# Altium footprint library Connectors.PcbLib: 73 footprints (part 2 of 5)
Each footprint in its own frame and in the unit in brackets; x right, y up, seen from the top. Pads: shape width x height; smd on the part's side, far side on the other; paste and mask are expansions set on the pad; w line width, h text height; cw(c..) or ccw(c..) is an arc to the next point about the centre after c.
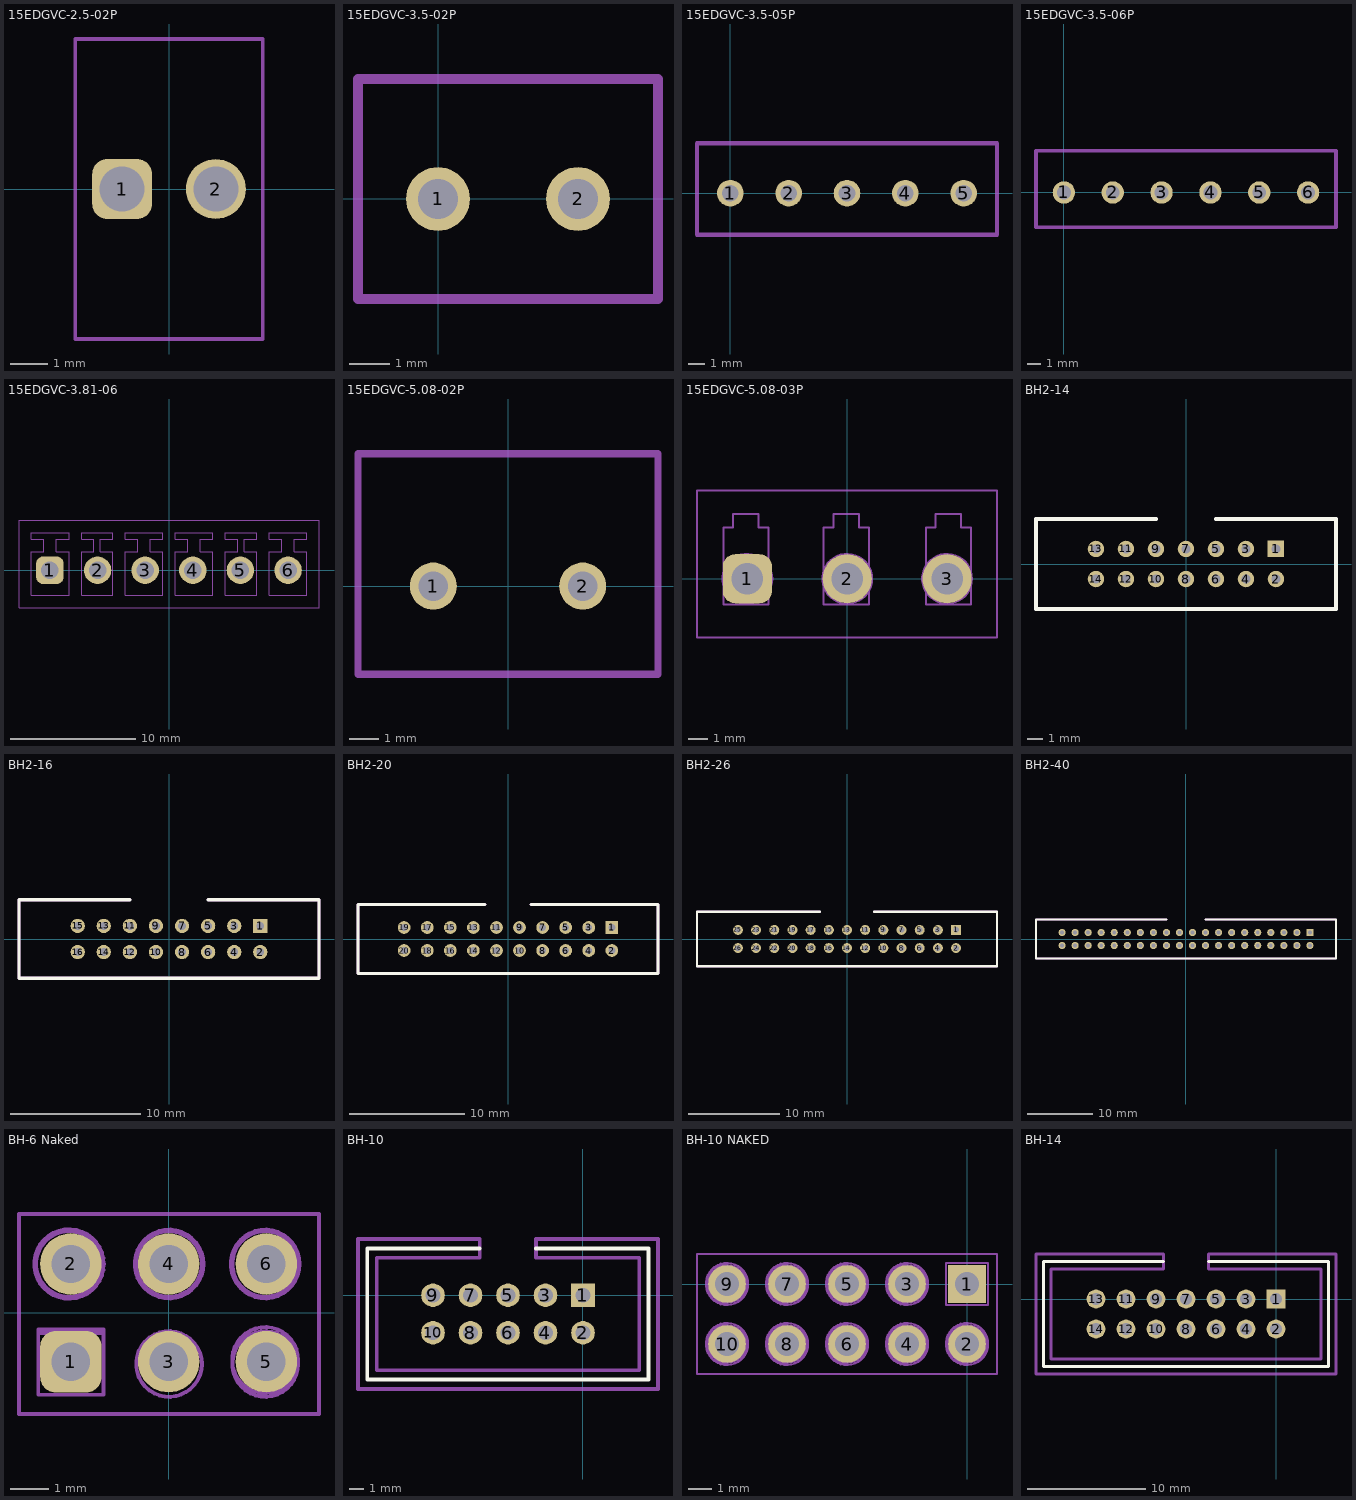
[diagram p1: the footprints below, top view; thin cyan lines are the x and y axes]

## 15EDGVC-2.5-02P [mm]
pads (2):
  rrect50% 1.6x1.6 hole 1.2: 1(-1.25,0)
  round 1.6 hole 1.2: 2(1.25,0)
Mechanical 1:
  lines w0.1: -2.5,-4 2.5,-4 2.5,4 -2.5,4 -2.5,-4
3D body: height 9, standoff 0, extent -2.5,2.5 2.5,4
3D body: height 9, standoff 0, extent -2.5,-4 2.5,2.5
3D body: height 7, standoff 0, extent -2.05,-0.8 -0.456,0.797
3D body: height 7, standoff 0, extent 0.45,-0.8 2.044,0.797

## 15EDGVC-3.5-02P [mm]
pads (2):
  round 1.6 hole 1: 1(0,0) 2(3.5,0)
Mechanical 1:
  lines w0.254: -2,-2.5 -2,3 5.5,3 5.5,-2.5 -2,-2.5
3D body: height 7, standoff 0, extent 2.5,-1 4.492,0.996
3D body: height 7, standoff 0, extent -1,-1 0.992,0.996
3D body: height 9, standoff 0, extent -2,-2.5 5.5,1.5
3D body: height 9, standoff 0, extent -2,1.5 5.5,3

## 15EDGVC-3.5-05P [mm]
pads (5):
  round 1.6 hole 1: 1(0,0) 2(3.5,0) 3(7,0) 4(10.5,0) 5(14,0)
Mechanical 1:
  lines w0.254: -2,-2.5 16,-2.5 16,3 -2,3 -2,-2.5
3D body: height 9, standoff 0, extent -2,1.5 5.5,3
3D body: height 9, standoff 0, extent -2,-2.5 5.5,1.5
3D body: height 7, standoff 0, extent -1,-1 0.992,0.996
3D body: height 7, standoff 0, extent 2.5,-1 4.492,0.996
3D body: height 7, standoff 0, extent 6,-1 7.992,0.996
3D body: height 7, standoff 0, extent 9.5,-1 11.492,0.996
3D body: height 7, standoff 0, extent 13,-1 14.992,0.996
3D body: height 9, standoff 0, extent 5.5,-2.5 16,1.5
3D body: height 9, standoff 0, extent 5.5,1.5 16,3

## 15EDGVC-3.5-06P [mm]
pads (6):
  round 1.6 hole 1: 1(0,0) 2(3.5,0) 3(7,0) 4(10.5,0) 5(14,0) 6(17.5,0)
Mechanical 1:
  lines w0.254: -2,-2.5 -2,3 19.5,3 19.5,-2.5 -2,-2.5
3D body: height 9, standoff 0, extent 16,-2.5 19.5,3
3D body: height 7, standoff 0, extent 16.5,-1 18.492,0.996
3D body: height 9, standoff 0, extent 5.5,1.5 16,3
3D body: height 9, standoff 0, extent 5.5,-2.5 16,1.5
3D body: height 7, standoff 0, extent 13,-1 14.992,0.996
3D body: height 7, standoff 0, extent 9.5,-1 11.492,0.996
3D body: height 7, standoff 0, extent 6,-1 7.992,0.996
3D body: height 7, standoff 0, extent 2.5,-1 4.492,0.996
3D body: height 7, standoff 0, extent -1,-1 0.992,0.996
3D body: height 9, standoff 0, extent -2,-2.5 5.5,1.5
3D body: height 9, standoff 0, extent -2,1.5 5.5,3

## 15EDGVC-3.81-06 [mm]
pads (6):
  rrect50% 2.2x2.2 hole 1.4: 1(-9.525,0)
  round 2.2 hole 1.4: 2(-5.715,0) 3(-1.905,0) 4(1.905,0) 5(5.715,0) 6(9.525,0)
Mechanical 1:
  lines w0.1: -7,3 -7,2.5 -6,2.5 -6,1.5 -7,1.5 -7,-2 -4.5,-2 -4.5,1.5 -5.5,1.5 -5.5,2.5 -4.5,2.5 -4.5,3 -7,3 ; -7,3 -7,3 ; 4.5,3 4.5,2.5 5.5,2.5 5.5,1.5 4.5,1.5 4.5,-2 7,-2 7,1.5 6,1.5 6,2.5 7,2.5 7,3 4.5,3 ; 4.5,3 4.5,3 ; -12,-3 12,-3 12,4 -12,4 -12,-3 ; -11,-2 -8,-2 -8,1.5 -9,1.5 -9,2.5 -8,2.5 -8,3 -11,3 -11,2.5 -10,2.5 -10,1.5 -11,1.5 -11,-2 ; -3.5,-2 -3.5,1.5 -2.5,1.5 -2.5,2.5 -3.5,2.5 -3.5,3 -0.5,3 -0.5,2.5 -1.5,2.5 -1.5,1.5 -0.5,1.5 -0.5,-2 -3.5,-2 ; 0.5,-2 0.5,1.5 1.5,1.5 1.5,2.5 0.5,2.5 0.5,3 3.5,3 3.5,2.5 2.5,2.5 2.5,1.5 3.5,1.5 3.5,-2 0.5,-2 ; 8,-2 8,1.5 9,1.5 9,2.5 8,2.5 8,3 11,3 11,2.5 10,2.5 10,1.5 11,1.5 11,-2 8,-2
Mechanical 13:
  text ".Designator" at -3.5,-4 h1
3D body: height 9.1, standoff 0, extent -7,1.5 -6,2.5
3D body: height 9.1, standoff 0, extent -5.5,1.5 -4.5,2.5
3D body: height 9.1, standoff 0, extent 4.5,1.5 5.5,2.5
3D body: height 9.1, standoff 0, extent 6,1.5 7,2.5
3D body: height 9.1, standoff 0, extent 0.5,1.5 1.5,2.5
3D body: height 9.1, standoff 0, extent 2.5,1.5 3.5,2.5
3D body: height 9.1, standoff 0, extent 8,1.5 9,2.5
3D body: height 9.1, standoff 0, extent 10,1.5 11,2.5
3D body: height 9.1, standoff 0, extent -3.5,1.5 -2.5,2.5
3D body: height 9.1, standoff 0, extent -1.5,1.5 -0.5,2.5
3D body: height 9.1, standoff 0, extent -9,1.5 -8,2.5
3D body: height 9.1, standoff 0, extent -11,1.5 -10,2.5
3D body: height 9.1, standoff 0, extent 7,-2 8,3
3D body: height 9.1, standoff 0, extent 3.5,-2 4.5,3
3D body: height 9.1, standoff 0, extent -0.5,-2 0.5,3
3D body: height 9.1, standoff 0, extent -4.5,-2 -3.5,3
3D body: height 9.1, standoff 0, extent -8,-2 -7,3
3D body: height 9.1, standoff 0, extent -12,-3 12,4

## 15EDGVC-5.08-02P [mm]
pads (2):
  round 1.6 hole 1: 1(-2.54,0) 2(2.54,0)
Mechanical 1:
  lines w0.254: -5.1,-3 -5.1,4.5 ; -5.08,-3 5.08,-3 ; -5.08,4.5 5.08,4.5 ; 5.1,-3 5.1,4.5
3D body: height 7, standoff 0, extent 1.905,-0.598 3.1,0.6
3D body: height 7, standoff 0, extent -3.1,-0.598 -1.905,0.6
3D body: height 9, standoff 0, extent -5.08,2.54 5.08,4.572
3D body: height 9, standoff 0, extent -5.08,-3.048 5.08,2.54

## 15EDGVC-5.08-03P [mm]
pads (3):
  rrect50% 2.5x2.5 hole 1.6: 1(-5.08,0)
  round 2.5 hole 1.6: 2(0,0) 3(5.08,0)
Mechanical 1:
  lines w0.1: -7.64,-3 -7.64,4.5 ; -7.62,-3 7.62,-3 7.62,4.5 -7.62,4.5 ; -6.3,-1.3 -6.3,2.6 -6.1,2.6 -5.8,2.6 -5.8,3.3 -4.5,3.3 -4.5,2.6 -4,2.6 -4,-1.3 -6.3,-1.3 ; -1.2,-1.3 1.1,-1.3 1.1,2.6 0.6,2.6 0.6,3.3 -0.7,3.3 -0.7,2.6 -1,2.6 -1.2,2.6 -1.2,-1.3 ; 4,-1.3 6.3,-1.3 6.3,2.6 5.8,2.6 5.8,3.3 4.5,3.3 4.5,2.6 4.2,2.6 4,2.6 4,-1.3
Mechanical 4:
  circle w0.1: c5.08,0 r1.27
  circle w0.1: c0,0 r1.27
  circle w0.1: c-5.08,0 r1.27
3D body: height 9, standoff 0, extent 2.54,2.54 7.62,4.572
3D body: height 9, standoff 0, extent 2.54,-3.048 7.62,2.54
3D body: height 7, standoff 0, extent -0.635,-0.598 0.56,0.6
3D body: height 7, standoff 0, extent -5.64,-0.598 -4.445,0.6
3D body: height 9, standoff 0, extent -7.62,2.54 2.54,4.572
3D body: height 9, standoff 0, extent -7.62,-3.048 2.54,2.54
3D body: height 7, standoff 0, extent 4.482,-0.635 5.678,0.563

## BH2-14 [mm]
height 11
pads (14):
  rect 1.1x1.1 hole 0.6: 1(6,1)
  round 1.1 hole 0.6: 2(6,-1) 3(4,1) 4(4,-1) 5(2,1) 6(2,-1) 7(0,1) 8(0,-1) 9(-2,1) 10(-2,-1) 11(-4,1) 12(-4,-1) 13(-6,1) 14(-6,-1)
Top Overlay:
  lines w0.254: -2,3 -10,3 -10,-3 10,-3 10,3 2,3
Mechanical 1:
  lines w0.254: -2,3 -10,3 -10,-3 10,-3 10,3 2,3
3D body: height 6, standoff 0, extent -10,-3.25 10,3.25

## BH2-16 [mm]
height 11
pads (16):
  rect 1.1x1.1 hole 0.6: 1(7,1)
  round 1.1 hole 0.6: 2(7,-1) 3(5,1) 4(5,-1) 5(3,1) 6(3,-1) 7(1,1) 8(1,-1) 9(-1,1) 10(-1,-1) 11(-3,1) 12(-3,-1) 13(-5,1) 14(-5,-1) 15(-7,1) 16(-7,-1)
Top Overlay:
  lines w0.254: -3,3 -11.5,3 -11.5,-3 11.5,-3 11.5,3 3,3
Mechanical 1:
  lines w0.254: -3,3 -11.5,3 -11.5,-3 11.5,-3 11.5,3 3,3
3D body: height 6, standoff 0, extent -11.8,-3.3 11.8,3.3

## BH2-20 [mm]
height 11
pads (20):
  rect 1.1x1.1 hole 0.6: 1(9,1)
  round 1.1 hole 0.6: 2(9,-1) 3(7,1) 4(7,-1) 5(5,1) 6(5,-1) 7(3,1) 8(3,-1) 9(1,1) 10(1,-1) 11(-1,1) 12(-1,-1) 13(-3,1) 14(-3,-1) 15(-5,1) 16(-5,-1) 17(-7,1) 18(-7,-1) 19(-9,1) 20(-9,-1)
Top Overlay:
  lines w0.254: -2,3 -13,3 -13,-3 13,-3 13,3 2,3
Mechanical 1:
  lines w0.254: -2,3 -13,3 -13,-3 13,-3 13,3 2,3
3D body: height 6, standoff 0, extent -13.25,-3.25 13.25,3.25

## BH2-26 [mm]
height 11
pads (26):
  rect 1.1x1.1 hole 0.6: 1(12,1)
  round 1.1 hole 0.6: 2(12,-1) 3(10,1) 4(10,-1) 5(8,1) 6(8,-1) 7(6,1) 8(6,-1) 9(4,1) 10(4,-1) 11(2,1) 12(2,-1) 13(0,1) 14(0,-1) 15(-2,1) 16(-2,-1) 17(-4,1) 18(-4,-1) 19(-6,1) 20(-6,-1) 21(-8,1) 22(-8,-1) 23(-10,1) 24(-10,-1) 25(-12,1) 26(-12,-1)
Top Overlay:
  lines w0.254: -3,3 -16.5,3 -16.5,-3 16.5,-3 16.5,3 3,3
Mechanical 1:
  lines w0.254: -3,3 -16.5,3 -16.5,-3 16.5,-3 16.5,3 3,3
3D body: height 6, standoff 0, extent -16.8,-3.4 16.8,3.3

## BH2-40 [mm]
height 11
pads (40):
  rect 1.1x1.1 hole 0.6: 1(19,1)
  round 1.1 hole 0.6: 2(19,-1) 3(17,1) 4(17,-1) 5(15,1) 6(15,-1) 7(13,1) 8(13,-1) 9(11,1) 10(11,-1) 11(9,1) 12(9,-1) 13(7,1) 14(7,-1) 15(5,1) 16(5,-1) 17(3,1) 18(3,-1) 19(1,1) 20(1,-1) 21(-1,1) 22(-1,-1) 23(-3,1) 24(-3,-1) 25(-5,1) 26(-5,-1) 27(-7,1) 28(-7,-1) 29(-9,1) 30(-9,-1) 31(-11,1) 32(-11,-1) 33(-13,1) 34(-13,-1) 35(-15,1) 36(-15,-1) 37(-17,1) 38(-17,-1) 39(-19,1) 40(-19,-1)
Top Overlay:
  lines w0.254: -3,3 -23,3 -23,-3 23,-3 23,3 3,3
Mechanical 1:
  lines w0.254: -3,3 -23,3 -23,-3 23,-3 23,3 3,3
3D body: height 6, standoff 0, extent -23.3,-3.3 23.3,3.3

## BH-6 Naked [mm]
height 11
pads (6):
  rrect50% 1.6x1.6 hole 1: 1(-2.54,-1.27)
  round 1.6 hole 1: 2(-2.54,1.27) 3(0,-1.27) 4(0,1.27) 5(2.54,-1.27) 6(2.54,1.27)
Mechanical 1:
  circle w0.1: c2.51,-1.23 r0.86
  circle w0.1: c0.01,-1.33 r0.854
  circle w0.1: c2.51,1.27 r0.894
  circle w0.1: c0.01,1.27 r0.894
  circle w0.1: c-2.59,1.27 r0.906
  lines w0.1: -3.89,-2.63 3.91,-2.63 3.91,2.57 -3.89,2.57 -3.89,-2.63 ; -3.39,-2.13 -3.39,-0.43 -1.69,-0.43 -1.69,-2.13 -3.39,-2.13
Mechanical 4:
  circle w0.1: c-2.59,1.27 r0.854
  circle w0.1: c0.01,1.27 r0.854
  circle w0.1: c2.51,1.27 r0.854
  circle w0.1: c0.01,-1.33 r0.854
  circle w0.1: c2.51,-1.33 r0.854
  lines w0.1: -3.39,-2.13 -1.69,-2.13 -1.69,-0.53 -3.39,-0.53 -3.39,-2.13
Mechanical 13:
  text ".Designator" at -3.79,3.07 h1
3D body: height 3, standoff 0, extent -3.81,-2.54 3.81,2.54
3D body: height 8, standoff 3, extent -3.04,0.75 -2.044,1.748
3D body: height 8, standoff 3, extent -0.5,0.75 0.496,1.748
3D body: height 8, standoff 3, extent 2.04,0.75 3.036,1.748
3D body: height 8, standoff 3, extent -3.04,-1.79 -2.044,-0.792
3D body: height 8, standoff 3, extent -0.5,-1.79 0.496,-0.792
3D body: height 8, standoff 3, extent 2.04,-1.79 3.036,-0.792

## BH-10 [mm]
height 11
pads (10):
  rect 1.6x1.6 hole 1: 1(0,0)
  round 1.6 hole 1: 2(0,-2.54) 3(-2.54,0) 4(-2.54,-2.54) 5(-5.08,0) 6(-5.08,-2.54) 7(-7.62,0) 8(-7.62,-2.54) 9(-10.16,0) 10(-10.16,-2.54)
Top Overlay:
  lines w0.254: -6.985,3.175 -14.605,3.175 -14.605,-5.715 4.445,-5.715 4.445,3.175 -3.175,3.175
Mechanical 1:
  lines w0.254: -15.24,-6.35 -15.24,3.81 -6.985,3.81 -6.985,2.54 -13.97,2.54 -13.97,-5.08 3.81,-5.08 3.81,2.54 -3.175,2.54 -3.175,3.81 5.08,3.81 5.08,-6.35 -15.24,-6.35
3D body: height 10.2, standoff 0, extent -15.24,-6.35 5.08,3.81

## BH-10 NAKED [mm]
height 11
pads (10):
  rect 1.6x1.6 hole 1: 1(0,0)
  round 1.6 hole 1: 2(0,-2.54) 3(-2.54,0) 4(-2.54,-2.54) 5(-5.08,0) 6(-5.08,-2.54) 7(-7.62,0) 8(-7.62,-2.54) 9(-10.16,0) 10(-10.16,-2.54)
Mechanical 1:
  circle w0.1: c-10.16,0 r0.803
  circle w0.1: c-7.62,0 r0.803
  circle w0.1: c-10.16,-2.54 r0.803
  circle w0.1: c-7.62,-2.54 r0.803
  circle w0.1: c-5.08,0 r0.803
  circle w0.1: c-5.08,-2.54 r0.803
  circle w0.1: c-2.54,0 r0.803
  circle w0.1: c-2.54,-2.54 r0.803
  circle w0.1: c0,-2.54 r0.803
  lines w0.1: -11.43,-3.81 -11.43,1.27 1.27,1.27 1.27,-3.81 -11.43,-3.81 ; -0.889,-0.889 -0.889,0.889 0.889,0.889 0.889,-0.889 -0.889,-0.889
Mechanical 4:
  circle w0.1: c-10.16,0 r0.889
  circle w0.1: c-7.62,0 r0.889
  circle w0.1: c-7.62,-2.54 r0.889
  circle w0.1: c-10.16,-2.54 r0.889
  circle w0.1: c-5.08,-2.54 r0.889
  circle w0.1: c-5.08,0 r0.889
  circle w0.1: c-2.54,0 r0.889
  circle w0.1: c-2.54,-2.54 r0.889
  circle w0.1: c0,-2.54 r0.889
  lines w0.1: -0.889,-0.889 -0.889,0.889 0.889,0.889 0.889,-0.889 -0.889,-0.889
Mechanical 13:
  text ".Designator" at -8.89,1.651 h1
3D body: height 3, standoff 0, extent -11.43,-3.81 1.27,1.27
3D body: height 8, standoff 3, extent -10.668,-0.508 -9.672,0.49
3D body: height 8, standoff 3, extent -8.128,-0.508 -7.132,0.49
3D body: height 8, standoff 3, extent -5.588,-0.508 -4.592,0.49
3D body: height 8, standoff 3, extent -3.048,-0.508 -2.052,0.49
3D body: height 8, standoff 3, extent -0.508,-0.508 0.488,0.49
3D body: height 8, standoff 3, extent -10.668,-3.048 -9.672,-2.05
3D body: height 8, standoff 3, extent -8.128,-3.048 -7.132,-2.05
3D body: height 8, standoff 3, extent -5.588,-3.048 -4.592,-2.05
3D body: height 8, standoff 3, extent -3.048,-3.048 -2.052,-2.05
3D body: height 8, standoff 3, extent -0.508,-3.048 0.488,-2.05

## BH-14 [mm]
height 11
pads (14):
  rect 1.6x1.6 hole 1: 1(0,0)
  round 1.6 hole 1: 2(0,-2.54) 3(-2.54,0) 4(-2.54,-2.54) 5(-5.08,0) 6(-5.08,-2.54) 7(-7.62,0) 8(-7.62,-2.54) 9(-10.16,0) 10(-10.16,-2.54) 11(-12.7,0) 12(-12.7,-2.54) 13(-15.24,0) 14(-15.24,-2.54)
Top Overlay:
  lines w0.254: -9.525,3.175 -19.685,3.175 -19.685,-5.715 4.445,-5.715 4.445,3.175 -5.715,3.175
Mechanical 1:
  lines w0.254: -20.32,-6.35 5.08,-6.35 5.08,3.81 -5.715,3.81 -5.715,2.54 3.81,2.54 3.81,-5.08 -19.05,-5.08 -19.05,2.54 -9.525,2.54 -9.525,3.81 -20.32,3.81 -20.32,-6.35
3D body: height 10.2, standoff 0, extent -20.32,-6.35 5.08,3.81